# Altium integrated library 5V Converter.IntLib: 17 symbols
Pins are listed as number, name and electrical type; pins without a type are passive.

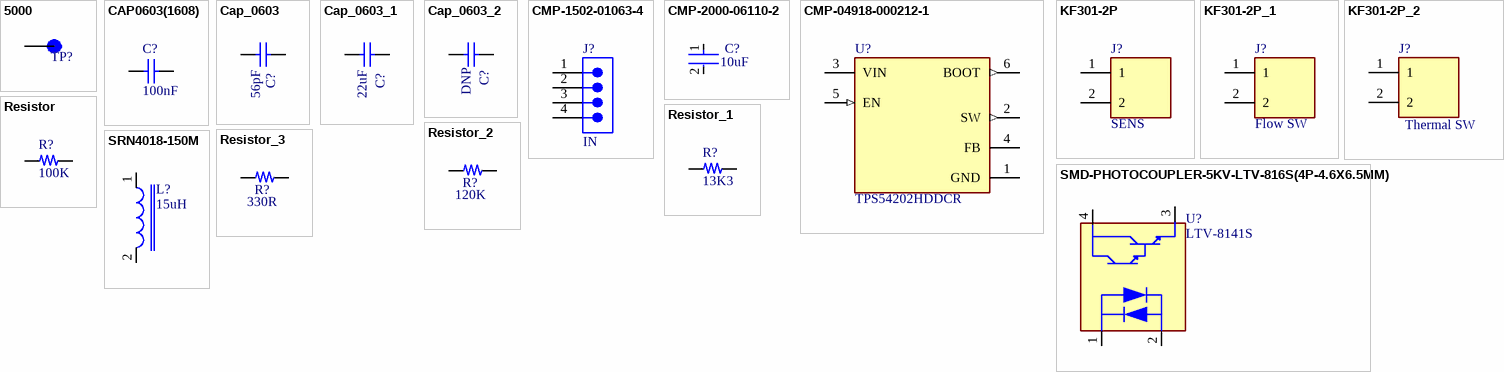
[diagram p0: symbols 5000 to SRN4018-150M]

## 5000
designator TP?  (value not drawn)
Test Point Miniature THM H .300 Nylon 46 Insulated Red PhosBronze/Silver | Keystone Electronics 5000; SnapEDA_Link: https://www.snapeda.com/parts/5000/Keystone/view-part/?ref=snap; Package: Test Point Keystone Electronics; Value: *; MF: Keystone Electronics; MP: 5000; Check_prices: https://www.snapeda.com/parts/5000/Keystone/view-part/?ref=eda
footprint KEYSTONE_5000
pins: TP

## CAP0603(1608)
designator C?, comment 100nF
CL05B104KB5NNNC-Samsung-50V 100nF X7R ±10% 0402 Multilayer Ceramic Capacitors MLCC – SMD/SMT ROHS; Value: 100nF; MFG: Samsung; MPN: CL05B104KB5NNNC
footprint RES_ERJU02F5102X
pins: 1, 2

## Cap_0603
designator C?, comment 56pF
SMD Multilayer Ceramic Capacitor, 56 pF, 50 V, 0402 [1005 Metric], ± 5%, C0G / NP0; MPN: CC0402JRNPO9BN560; MFG: YAGEO; Voltage Rating: 50V; Type: SMD; Package: 0402; Value: 56pF; Tolerance: ± 5%; Temperature Coefficient: C0G / NP0
footprint CAP_0402
footprint CAPC1005X55N
pins: 1, 2

## Cap_0603_1
designator C?, comment 22uF
22 µF ±10% 16V Ceramic Capacitor X5R 0805 (2012 Metric); MPN: CL21A226KOQNNNE; MFG: Samsung Electro-Mechanics; Type: SMD; Package: 0805; Value: 22uF; Tolerance: ±10%; Temperature Coefficient: X5R; Voltage Rating: 16V
footprint CAPC2012X88N
pins: 1, 2

## Cap_0603_2
designator C?, comment DNP
22 µF ±10% 16V Ceramic Capacitor X5R 0805 (2012 Metric); MPN: CL21A226KOQNNNE; MFG: Samsung Electro-Mechanics; Type: SMD; Value: 22uF; Package: 0805; Tolerance: ±10%; Temperature Coefficient: X5R; Voltage Rating: 16V
footprint CAPC2012X88N
pins: 1, 2

## CMP-1502-01063-4
designator J?, comment IN
THT Angled Pin Header WR-PHD, Pitch 2.54 mm, Single Row, 4 pins; MPN: MC34749; MFG: MULTICOMP PRO; Operating Supply Voltage: 250V; Contact Resistance: 20mΩ; Current Rating: 3A; Number of Contacts: 4; Pitch: 2.54mm; Gender: Male; Number of Rows: 1; Lead Pitch: 2.54mm; RoHS: Compliant; Number of Pins: 4; Number of Positions: 4; Contact Material: Copper; Contact Plating: Gold; Color: Black; Mount: Through Hole; Contact Mating Length: 5.9944mm
footprint 61300411021 (THT Angled Pin Header WR-PHD, Pitch 2.54 mm, Single Row, 4 pins)
pins: 1, 2, 3, 4

## CMP-2000-06110-2
designator C?, comment 10uF
Cap Ceramic 10uF 50V X7R ±10% SMD 1210 +125°C Embossed T/R; MPN: CL32B106KBJNNNE; MFG: SAMSUNG ELECTRONICS; Material: Ceramic; Min Operating Temperature: -55°C; Capacitance: 10uF; Packaging: Tape and Reel; Dielectric: X7R; Case Code (Metric): 3225; Height: 2.5mm; Thickness: 0.106inch; Voltage Rating (DC): 50V; Voltage Rating: 50V; Width: 0.098inch; Case Code (Imperial): 1210; Length: 3.2mm; Tolerance: 10%; Lead Free: Lead Free; Package Quantity: 1; Voltage: 50V; Mount: Surface Mount; Case/Package: 1210; Max Operating Temperature: 125°C
footprint FP-CL32-IPC_C
footprint FP-CL32-IPC_B
footprint FP-CL32-IPC_A
pins: 1, 2

## CMP-04918-000212-1
designator U?, comment TPS54202HDDCR
4.5V to 28V Input, 2A Output, Synchronous Step-Down Voltage Converter; Min Output Voltage: 596mV; Number of Outputs: 1; Switching Frequency: 500kHz; Output Configuration: Positive; MFG: TEXAS INSTRUMRNT; Synchronous Rectifier: Yes; Output Type: Adjustable; Quiescent Current: 40uA; Case/Package: SOT-23-6; Output Current: 2A; Mount: Surface Mount; Min Operating Temperature: -40°C; Max Input Voltage: 28V; Max Output Voltage: 28V; Max Operating Temperature: 125°C; MPN: TPS54202HDDCR; Min Input Voltage: 4.5V; RoHS Compliant: Yes
footprint FP-DDC0006A-IPC_B
footprint FP-DDC0006A-IPC_C
footprint FP-DDC0006A-MFG
footprint FP-DDC0006A-IPC_A
pins: 1 GND (power), 2 SW (out), 3 VIN (power), 4 FB, 5 EN (in), 6 BOOT (out)

## KF301-2P
designator J?, comment SENS
2 Pin Terminal Block 5mm Pitch; MPN: MA522-500M03; MFG: MULTICOMP PRO
footprint HANDSON_KF301-2P
pins: 1, 2

## KF301-2P_1
designator J?, comment Flow SW
2 Pin Terminal Block 5mm Pitch; MPN: MA522-500M03; MFG: MULTICOMP PRO
footprint HANDSON_KF301-2P
pins: 1, 2

## KF301-2P_2
designator J?, comment Thermal SW
2 Pin Terminal Block 5mm Pitch; MPN: MA522-500M03; MFG: MULTICOMP PRO
footprint HANDSON_KF301-2P
pins: 1, 2

## Resistor
designator R?, comment 100K
100 kOhms ±1% 0.063W, 1/16W Chip Resistor 0402 (1005 Metric) Moisture Resistant Thick Film; MPN: RC0402FR-07100KL; MFG: YAGEO; Value: 100K; Tolerance: ±1 %; Temperature Coefficient: *; Type: SMD; Package: 0402; Power Rating: *; Operating Temperature: -55°C ~ 155°C
footprint RES_ERJU02F5102X
pins: 1, 2

## Resistor_1
designator R?, comment 13K3
13.3 kOhms ±1% 0.063W, 1/16W Chip Resistor 0402 (1005 Metric) Moisture Resistant Thick Film; MPN: RC0402FR-0713K3L; MFG: YAGEO; Value: 13K3; Tolerance: ±1 %; Temperature Coefficient: *; Type: SMD; Package: 0402; Power Rating: *; Operating Temperature: -55°C ~ 155°C
footprint RES_ERJU02F5102X
pins: 1, 2

## Resistor_2
designator R?, comment 120K
RES 1K OHM 5% 1W AXIAL; MPN: ROX8J120K; MFG: TE  CONNECTIVITY; Tolerance: ±1 %; Value: 120K; Temperature Coefficient: *; Operating Temperature: -55°C ~ 155°C; Type: SMD; Package: 1210; Power Rating: *
footprint CAPC340270_190N_KEM
footprint RES_ROX1S_TYCO_TYC
footprint RES_ROX1S_TYCO_TYC
pins: 1, 2

## Resistor_3
designator R?, comment 330R
RES, 330R, 1%, 0.0625W, THICK FILM, 0402; MPN: RC0402FR-07330RL; MFG: YAGEO; Value: 330R; Tolerance: ±1 %; Temperature Coefficient: *; Operating Temperature: -55°C ~ 155°C; Type: SMD; Package: 1210; Power Rating: *
footprint RES_ERJU02F5102X
pins: 1, 2

## SMD-PHOTOCOUPLER-5KV-LTV-816S(4P-4.6X6.5MM)
designator U?, comment LTV-8141S
LTV-8141S-TA1-Lite-On-35V 5kV 75mA 800mV@20mA,20mA 1 1.2V SMD-4P Transistor, Photovoltaic Output Optoisolators ROHS; MFG: LITEON; Package: 4-SMD; MPN: LTV-8141S
footprint SMD4-2.54-4.6X6.5MM
footprint SMD4-2.54-4.6X6.5MM
footprint SMD4-2.54-4.6X6.5MM
pins: 1 ANODE, 2 CATHODE, 3 EMITER, 4 COLLECTOR

## SRN4018-150M
designator L?, comment 15uH
15 µH Shielded Drum Core, Wirewound Inductor 1 A 264mOhm Max Nonstandard; MPN: SRN4018-150M; MFG: BOURNS; Package: None; Price: None; Value: *; Availability: Unavailable
footprint INDP4040X180N
footprint INDP4040X180N
footprint IND_B82477G4472M000
pins: 1, 2